# Altium schematic symbol library STM32L4KB Micro.SchLib: 1 symbol
Pins are listed as number, name and electrical type; pins without a type are passive.

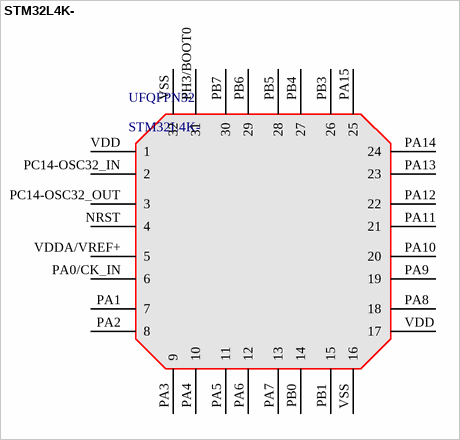
[diagram p0: symbol STM32L4K-]

## STM32L4K-
designator UFQFPN32
pins: NRST 4, PA0/CK_IN 6, PA1 7, PA2 8, PA3 9, PA4 10, PA5 11, PA6 12, PA7 13, PA8 18, PA9 19, PA10 20, PA11 21, PA12 22, PA13 23, PA14 24, PA15 25, PB0 14, PB1 15, PB3 26, PB4 27, PB5 28, PB6 29, PB7 30, PC14-OSC32_IN 2, PC14-OSC32_OUT 3, PH3/BOOT0 31, VDD 1, VDD 17, VDDA/VREF+ 5, VSS 16, VSS 32